# Altium schematic symbol library PartSpecificComponents.SchLib: 7 symbols
Pins are listed as number, name and electrical type; pins without a type are passive.

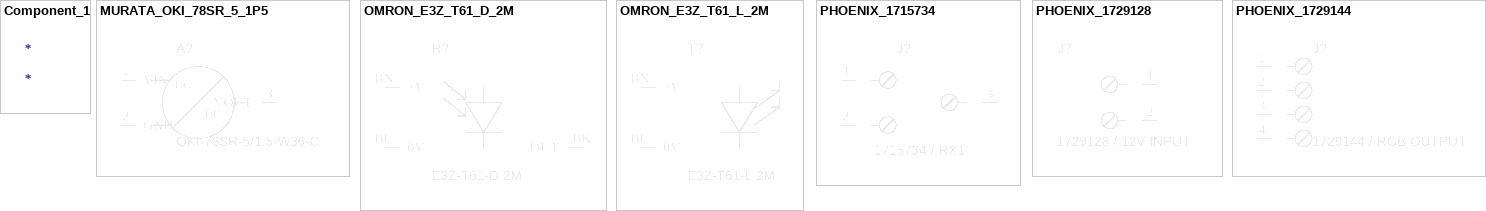
[diagram p0: symbols Component_1 to PHOENIX_1729144]

## Component_1
designator *

## MURATA_OKI_78SR_5_1P5
designator A?, comment OKI-78SR-5/1.5-W36-C
12 V to regulated 5 V DC/DC module; Manufacturer: Murata; Populate: Yes; Intended footprint: MURATA_OKI78SR_VERTICAL; CAD status: Native module symbol; verified 1 VIN / 2 GND / 3 VOUT; embedded community STEP, registration pending; Symbol provenance: Project-authored native Altium library; based on identified manufacturer part and pinout, not vendor-issued CAD; Manufacturer Part Number: OKI-78SR-5/1.5-W36-C; Package: SIP3_BUCK; Datasheet: https://www.murata.com/products/productdata/8807037992990/oki-78sr.pdf
footprint MURATA_OKI78SR_VERTICAL
pins: 1 VIN, 2 GND, 3 VOUT
text: DC

## OMRON_E3Z_T61_D_2M
designator R?, comment E3Z-T61-D 2M  (mechanical)
RECEIVER / NPN LIGHT-ON; purchased in E3Z-T61 2M pair; frame-mounted, not PCB-mounted; Manufacturer: Omron; Populate: Yes; Intended footprint: NONE - external wired device; CAD status: Native reusable part-specific symbol. External cabled assembly: no PCB pads. Manufacturer STEP blocked by HTTP 403.; Cable: Integral 2 m cable; BN brown +V / BU blue 0V / receiver BK black OUT; Supply: 12-24 VDC nominal; use regulated 12 V; BOM note: Buy one E3Z-T61 2M pair per TX/RX pair, not two pairs; Symbol representation: Complete powered photoelectric head; optical glyph is functional, not a bare discrete diode; Symbol provenance: Project-authored native Altium library; based on identified manufacturer part and pinout, not vendor-issued CAD; Manufacturer Part Number: E3Z-T61-D 2M; Package: EXTERNAL CABLED HEAD; Order as pair: E3Z-T61 2M; Body dimensions mm: 10.8 W x 31 H x 20 D; Mounting: Two M3 holes at 25.4 mm centres; optical face toward opposite upright; Datasheet: https://industrial.omron.eu/en/products/E3Z-T61-2M; 3D download: https://download.ia.omron.com/download/zip/ST/OEE/E3Z_T61/
pins: BK OUT, BN +V, BU 0V

## OMRON_E3Z_T61_L_2M
designator T?, comment E3Z-T61-L 2M  (mechanical)
EMITTER; purchased in E3Z-T61 2M pair; frame-mounted, not PCB-mounted; Manufacturer: Omron; Populate: Yes; Intended footprint: NONE - external wired device; CAD status: Native reusable part-specific symbol. External cabled assembly: no PCB pads. Manufacturer STEP blocked by HTTP 403.; Cable: Integral 2 m cable; BN brown +V / BU blue 0V / receiver BK black OUT; Supply: 12-24 VDC nominal; use regulated 12 V; BOM note: Buy one E3Z-T61 2M pair per TX/RX pair, not two pairs; Symbol representation: Complete powered photoelectric head; optical glyph is functional, not a bare discrete diode; Symbol provenance: Project-authored native Altium library; based on identified manufacturer part and pinout, not vendor-issued CAD; Manufacturer Part Number: E3Z-T61-L 2M; Package: EXTERNAL CABLED HEAD; Order as pair: E3Z-T61 2M; Body dimensions mm: 10.8 W x 31 H x 20 D; Mounting: Two M3 holes at 25.4 mm centres; optical face toward opposite upright; Datasheet: https://industrial.omron.eu/en/products/E3Z-T61-2M; 3D download: https://download.ia.omron.com/download/zip/ST/OEE/E3Z_T61/
pins: BN +V, BU 0V

## PHOENIX_1715734
designator J?, comment 1715734 / RX1
12V / GND / NPN signal terminal; Manufacturer: Phoenix Contact; Populate: Yes; Intended footprint: PHOENIX_1715734_MKDS_3_508; CAD status: Native screw-terminal symbol and explicit pad mapping; verify footprint/body before production; Wiring: 1 brown +12V; 2 blue 0V; 3 black NPN output; Symbol provenance: Project-authored native Altium library; based on identified manufacturer part and pinout, not vendor-issued CAD; Manufacturer Part Number: 1715734; Package: MKDS 1,5/3-5,08; Datasheet: https://www.phoenixcontact.com/en-us/products/printed-circuit-board-terminal-mkds-15-3-508-1715734
footprint PHOENIX_1715734_MKDS_3_508
pins: 1 +12V, 2 0V, 3 OUT

## PHOENIX_1729128
designator J?, comment 1729128 / 12V INPUT
Two-position 5.08 mm screw terminal; Manufacturer: Phoenix Contact; Populate: Yes; Intended footprint: PHOENIX_1729128_MKDSN_2_508; CAD status: Native screw-terminal symbol and explicit pad mapping; verify footprint/body before production; Symbol provenance: Project-authored native Altium library; based on identified manufacturer part and pinout, not vendor-issued CAD; Manufacturer Part Number: 1729128; Package: TERM_2_508
footprint PHOENIX_1729128_MKDSN_2_508
pins: 1 +12V (power), 2 0V (power)

## PHOENIX_1729144
designator J?, comment 1729144 / RGB OUTPUT
Common-anode analogue RGB strip; NOT addressable; Manufacturer: Phoenix Contact; Populate: Yes; Intended footprint: PHOENIX_1729144_MKDSN_4_508; CAD status: Native screw-terminal symbol and explicit pad mapping; verify footprint/body before production; Symbol provenance: Project-authored native Altium library; based on identified manufacturer part and pinout, not vendor-issued CAD; Manufacturer Part Number: 1729144; Package: TERM_4_508
footprint PHOENIX_1729144_MKDSN_4_508
pins: 1 +12V (power), 2 R-, 3 G-, 4 B-